# Altium footprint library con_molex_12_52207-1233.PcbLib: 1 footprints
Each footprint in its own frame and in the unit in brackets; x right, y up, seen from the top. Pads: shape width x height; smd on the part's side, far side on the other; paste and mask are expansions set on the pad; w line width, h text height; cw(c..) or ccw(c..) is an arc to the next point about the centre after c.
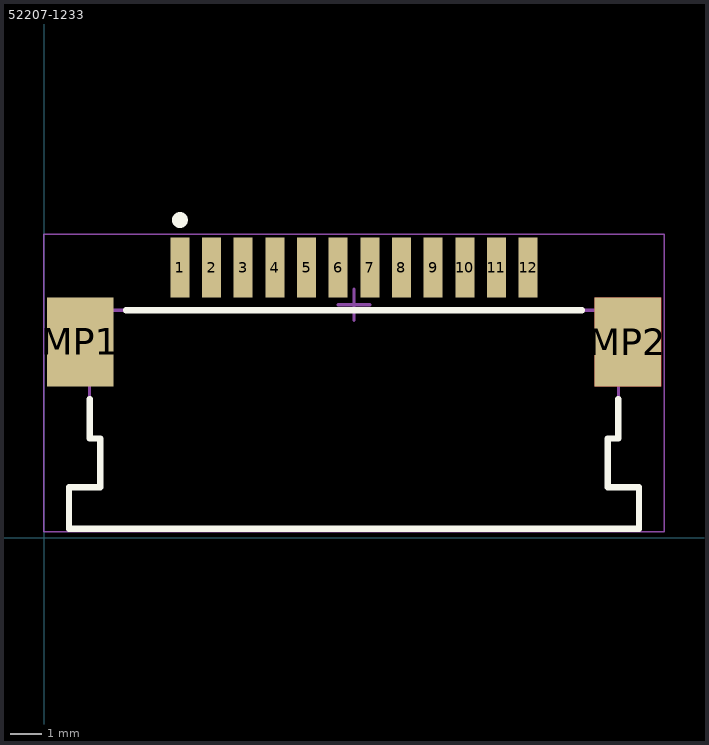
[diagram p0: the footprint, top view; thin cyan lines are the x and y axes]

## 52207-1233 [mm]
pads (14):
  rect 0.6x1.9 smd: 1(4.279,8.541) 2(5.279,8.541) 3(6.279,8.541) 4(7.279,8.541) 5(8.279,8.541) 6(9.279,8.541) 7(10.279,8.541) 8(11.279,8.541) 9(12.279,8.541) 10(13.279,8.541) 11(14.279,8.541) 12(15.279,8.541)
  rect 2.1x2.8 smd: MP1(1.129,6.191) MP2(18.429,6.191)
Top Layer:
  region: 19.479,7.591 17.379,7.591 17.379,4.791 19.479,4.791
Top Overlay:
  circle w0.25: c4.279,10.041 r0.125
  lines w0.2: 1.429,4.391 1.429,3.141 1.766,3.141 1.767,1.601 0.779,1.601 0.779,0.291 18.779,0.291 18.779,1.601 17.791,1.601 17.791,3.141 18.129,3.141 18.129,4.391 ; 2.579,7.191 16.979,7.191
Top 3D Body:
  lines w0.1: 0.629,5.191 0.629,7.191 18.929,7.191 18.929,5.191 18.129,5.191 18.129,3.141 17.791,3.141 17.791,1.601 18.779,1.601 18.779,0.291 0.779,0.291 0.779,1.601 1.767,1.601 1.767,3.141 1.429,3.141 1.429,5.191 0.629,5.191
Top Courtyard:
  lines w0.05: -0.021,0.191 -0.021,9.591 19.579,9.591 19.579,0.191 -0.021,0.191
  lines w0.1: 9.279,7.366 10.279,7.366 ; 9.779,6.866 9.779,7.866
3D body "522071233.stp": height 2.71, standoff 0.01, extent 0.629,0.291 18.929,9.191